# Altium schematic symbol library Yageo.SchLib: 231 symbols (part 3 of 3)
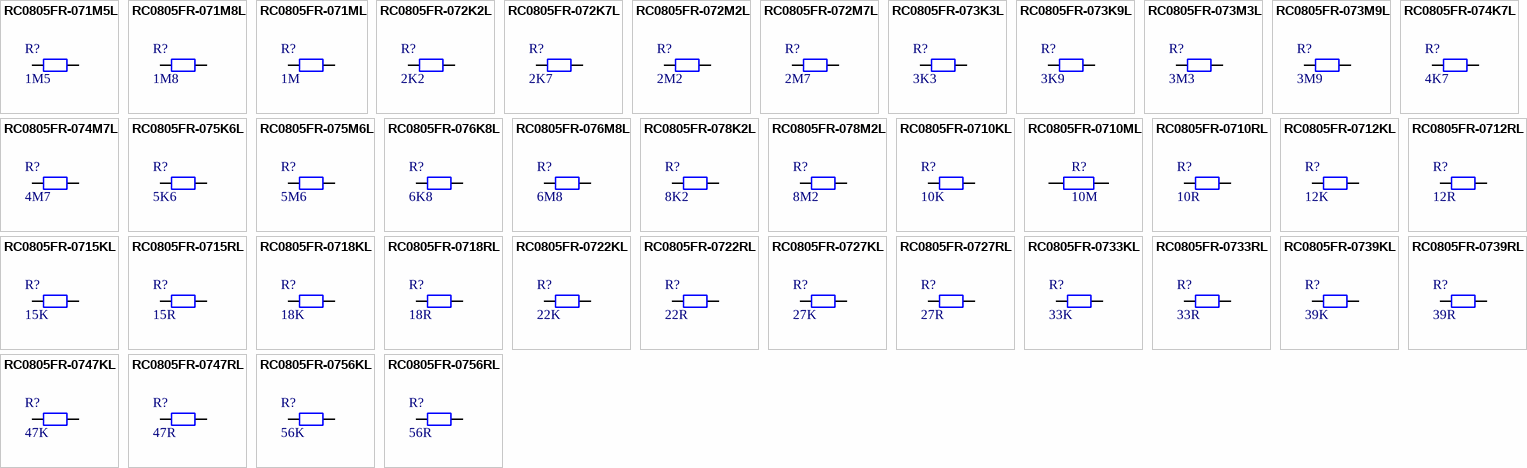
[diagram p7: symbols RC0805FR-071M5L to RC0805FR-0756RL]

## RC0805FR-0710RL
designator R?, comment 10R
RES 10R SM0805 YAGEO RC_L; Manufacturer Part Number: RC0805FR-0710RL; Power (Watts): 0.125; Resistance (Ohms): 10; Tolerance (%): 1; Category: Resistor; Manufacturer: Yageo; Package: 0805; Value: 10R; Supplier Part Number 1: 9237240; Supplier 1: Farnell; ComponentLink1Description: Manufacturer Website; ComponentLink1URL: http://www.yageo.com; Supplier 2: Digi-Key; Supplier Part Number 2: 311-10.0CRCT-ND; Datasheet: https://www.yageo.com/upload/media/product/app/datasheet/rchip/pyu-rc_group_51_rohs_l.pdf
footprint RES_SM0805_YAGEORC_N (Resistor, Yageo RC_L, SM0805, IPC Medium Density)
pins: 1, 2

## RC0805FR-0712KL
designator R?, comment 12K
RES 12K SM0805 YAGEO RC_L; Manufacturer Part Number: RC0805FR-0712KL; Power (Watts): 0.125; Resistance (Ohms): 12000; Tolerance (%): 1; Category: Resistor; Manufacturer: Yageo; Package: 0805; Value: 12K; Supplier Part Number 1: 9237763; Supplier 1: Farnell; ComponentLink1Description: Manufacturer Website; ComponentLink1URL: http://www.yageo.com; Supplier 2: Digi-Key; Supplier Part Number 2: 311-12.0KCRCT-ND
footprint RES_SM0805_YAGEORC_N (Resistor, Yageo RC_L, SM0805, IPC Medium Density)
pins: 1, 2

## RC0805FR-0712RL
designator R?, comment 12R
RES 12R SM0805 YAGEO RC_L; Manufacturer Part Number: RC0805FR-0712RL; Power (Watts): 0.125; Resistance (Ohms): 12; Tolerance (%): 1; Category: Resistor; Manufacturer: Yageo; Package: 0805; Value: 12R; Supplier Part Number 1: 9237259; Supplier 1: Farnell; ComponentLink1Description: Manufacturer Website; ComponentLink1URL: http://www.yageo.com; Supplier 2: Digi-Key; Supplier Part Number 2: 311-12.0CRCT-ND
footprint RES_SM0805_YAGEORC_N (Resistor, Yageo RC_L, SM0805, IPC Medium Density)
pins: 1, 2

## RC0805FR-0715KL
designator R?, comment 15K
RES 15K SM0805 YAGEO RC_L; Manufacturer Part Number: RC0805FR-0715KL; Power (Watts): 0.125; Resistance (Ohms): 15000; Tolerance (%): 1; Category: Resistor; Manufacturer: Yageo; Package: 0805; Value: 15K; Supplier Part Number 1: 9237771; Supplier 1: Farnell; ComponentLink1Description: Manufacturer Website; ComponentLink1URL: http://www.yageo.com; Supplier 2: Digi-Key; Supplier Part Number 2: 311-15.0KCRCT-ND
footprint RES_SM0805_YAGEORC_N (Resistor, Yageo RC_L, SM0805, IPC Medium Density)
pins: 1, 2

## RC0805FR-0715RL
designator R?, comment 15R
RES 15R SM0805 YAGEO RC_L; Manufacturer Part Number: RC0805FR-0715RL; Power (Watts): 0.125; Resistance (Ohms): 15; Tolerance (%): 1; Category: Resistor; Manufacturer: Yageo; Package: 0805; Value: 15R; Supplier Part Number 1: 9237267; Supplier 1: Farnell; ComponentLink1Description: Manufacturer Website; ComponentLink1URL: http://www.yageo.com; Supplier 2: Digi-Key; Supplier Part Number 2: 311-15.0CRCT-ND
footprint RES_SM0805_YAGEORC_N (Resistor, Yageo RC_L, SM0805, IPC Medium Density)
pins: 1, 2

## RC0805FR-0718KL
designator R?, comment 18K
RES 18K SM0805 YAGEO RC_L; Manufacturer Part Number: RC0805FR-0718KL; Power (Watts): 0.125; Resistance (Ohms): 18000; Tolerance (%): 1; Category: Resistor; Manufacturer: Yageo; Package: 0805; Value: 18K; Supplier Part Number 1: 9237780; Supplier 1: Farnell; ComponentLink1Description: Manufacturer Website; ComponentLink1URL: http://www.yageo.com; Supplier 2: Digi-Key; Supplier Part Number 2: 311-18.0KCRCT-ND
footprint RES_SM0805_YAGEORC_N (Resistor, Yageo RC_L, SM0805, IPC Medium Density)
pins: 1, 2

## RC0805FR-0718RL
designator R?, comment 18R
RES 18R SM0805 YAGEO RC_L; Manufacturer Part Number: RC0805FR-0718RL; Power (Watts): 0.125; Resistance (Ohms): 18; Tolerance (%): 1; Category: Resistor; Manufacturer: Yageo; Package: 0805; Value: 18R; Supplier Part Number 1: 9237275; Supplier 1: Farnell; ComponentLink1Description: Manufacturer Website; ComponentLink1URL: http://www.yageo.com; Supplier 2: Digi-Key; Supplier Part Number 2: 311-18.0CRCT-ND
footprint RES_SM0805_YAGEORC_N (Resistor, Yageo RC_L, SM0805, IPC Medium Density)
pins: 1, 2

## RC0805FR-0722KL
designator R?, comment 22K
RES 22K SM0805 YAGEO RC_L; Manufacturer Part Number: RC0805FR-0722KL; Power (Watts): 0.125; Resistance (Ohms): 22000; Tolerance (%): 1; Category: Resistor; Manufacturer: Yageo; Package: 0805; Value: 22K; Supplier Part Number 1: 9237798; Supplier 1: Farnell; ComponentLink1Description: Manufacturer Website; ComponentLink1URL: http://www.yageo.com; Supplier 2: Digi-Key; Supplier Part Number 2: 311-22.0KCRCT-ND
footprint RES_SM0805_YAGEORC_N (Resistor, Yageo RC_L, SM0805, IPC Medium Density)
pins: 1, 2

## RC0805FR-0722RL
designator R?, comment 22R
RES 22R SM0805 YAGEO RC_L; Manufacturer Part Number: RC0805FR-0722RL; Power (Watts): 0.125; Resistance (Ohms): 22; Tolerance (%): 1; Category: Resistor; Manufacturer: Yageo; Package: 0805; Value: 22R; Supplier Part Number 1: 9237283; Supplier 1: Farnell; ComponentLink1Description: Manufacturer Website; ComponentLink1URL: http://www.yageo.com; Supplier 2: Digi-Key; Supplier Part Number 2: 311-22.0CRCT-ND
footprint RES_SM0805_YAGEORC_N (Resistor, Yageo RC_L, SM0805, IPC Medium Density)
pins: 1, 2

## RC0805FR-0727KL
designator R?, comment 27K
RES 27K SM0805 YAGEO RC_L; Manufacturer Part Number: RC0805FR-0727KL; Power (Watts): 0.125; Resistance (Ohms): 27000; Tolerance (%): 1; Category: Resistor; Manufacturer: Yageo; Package: 0805; Value: 27K; Supplier Part Number 1: 9237801; Supplier 1: Farnell; ComponentLink1Description: Manufacturer Website; ComponentLink1URL: http://www.yageo.com; Supplier 2: Digi-Key; Supplier Part Number 2: 311-27.0KCRCT-ND
footprint RES_SM0805_YAGEORC_N (Resistor, Yageo RC_L, SM0805, IPC Medium Density)
pins: 1, 2

## RC0805FR-0727RL
designator R?, comment 27R
RES 27R SM0805 YAGEO RC_L; Manufacturer Part Number: RC0805FR-0727RL; Power (Watts): 0.125; Resistance (Ohms): 27; Tolerance (%): 1; Category: Resistor; Manufacturer: Yageo; Package: 0805; Value: 27R; Supplier Part Number 1: 9237291; Supplier 1: Farnell; ComponentLink1Description: Manufacturer Website; ComponentLink1URL: http://www.yageo.com; Supplier 2: Digi-Key; Supplier Part Number 2: 311-27.0CRCT-ND
footprint RES_SM0805_YAGEORC_N (Resistor, Yageo RC_L, SM0805, IPC Medium Density)
pins: 1, 2

## RC0805FR-0733KL
designator R?, comment 33K
RES 33K SM0805 YAGEO RC_L; Manufacturer Part Number: RC0805FR-0733KL; Power (Watts): 0.125; Resistance (Ohms): 33000; Tolerance (%): 1; Category: Resistor; Manufacturer: Yageo; Package: 0805; Value: 33K; Supplier Part Number 1: 9237810; Supplier 1: Farnell; ComponentLink1Description: Manufacturer Website; ComponentLink1URL: http://www.yageo.com; Supplier 2: Digi-Key; Supplier Part Number 2: 311-33.0KCRCT-ND
footprint RES_SM0805_YAGEORC_N (Resistor, Yageo RC_L, SM0805, IPC Medium Density)
pins: 1, 2

## RC0805FR-0733RL
designator R?, comment 33R
RES 33R SM0805 YAGEO RC_L; Manufacturer Part Number: RC0805FR-0733RL; Power (Watts): 0.125; Resistance (Ohms): 33; Tolerance (%): 1; Category: Resistor; Manufacturer: Yageo; Package: 0805; Value: 33R; Supplier Part Number 1: 9237305; Supplier 1: Farnell; ComponentLink1Description: Manufacturer Website; ComponentLink1URL: http://www.yageo.com; Supplier 2: Digi-Key; Supplier Part Number 2: 311-33.0CRCT-ND
footprint RES_SM0805_YAGEORC_N (Resistor, Yageo RC_L, SM0805, IPC Medium Density)
pins: 1, 2

## RC0805FR-0739KL
designator R?, comment 39K
RES 39K SM0805 YAGEO RC_L; Manufacturer Part Number: RC0805FR-0739KL; Power (Watts): 0.125; Resistance (Ohms): 39000; Tolerance (%): 1; Category: Resistor; Manufacturer: Yageo; Package: 0805; Value: 39K; Supplier Part Number 1: 9237828; Supplier 1: Farnell; ComponentLink1Description: Manufacturer Website; ComponentLink1URL: http://www.yageo.com; Supplier 2: Digi-Key; Supplier Part Number 2: 311-39.0KCRCT-ND
footprint RES_SM0805_YAGEORC_N (Resistor, Yageo RC_L, SM0805, IPC Medium Density)
pins: 1, 2

## RC0805FR-0739RL
designator R?, comment 39R
RES 39R SM0805 YAGEO RC_L; Manufacturer Part Number: RC0805FR-0739RL; Power (Watts): 0.125; Resistance (Ohms): 39; Tolerance (%): 1; Category: Resistor; Manufacturer: Yageo; Package: 0805; Value: 39R; Supplier Part Number 1: 9237313; Supplier 1: Farnell; ComponentLink1Description: Manufacturer Website; ComponentLink1URL: http://www.yageo.com; Supplier 2: Digi-Key; Supplier Part Number 2: 311-39.0CRCT-ND
footprint RES_SM0805_YAGEORC_N (Resistor, Yageo RC_L, SM0805, IPC Medium Density)
pins: 1, 2

## RC0805FR-0747KL
designator R?, comment 47K
RES 47K SM0805 YAGEO RC_L; Manufacturer Part Number: RC0805FR-0747KL; Power (Watts): 0.125; Resistance (Ohms): 47000; Tolerance (%): 1; Category: Resistor; Manufacturer: Yageo; Package: 0805; Value: 47K; Supplier Part Number 1: 9237836; Supplier 1: Farnell; ComponentLink1Description: Manufacturer Website; ComponentLink1URL: http://www.yageo.com; Supplier 2: Digi-Key; Supplier Part Number 2: 311-47.0KCRCT-ND
footprint RES_SM0805_YAGEORC_N (Resistor, Yageo RC_L, SM0805, IPC Medium Density)
pins: 1, 2

## RC0805FR-0747RL
designator R?, comment 47R
RES 47R SM0805 YAGEO RC_L; Manufacturer Part Number: RC0805FR-0747RL; Power (Watts): 0.125; Resistance (Ohms): 47; Tolerance (%): 1; Category: Resistor; Manufacturer: Yageo; Package: 0805; Value: 47R; Supplier Part Number 1: 9237321; Supplier 1: Farnell; ComponentLink1Description: Manufacturer Website; ComponentLink1URL: http://www.yageo.com; Supplier 2: Digi-Key; Supplier Part Number 2: 311-47.0CRCT-ND; Datasheet: https://www.yageo.com/upload/media/product/app/datasheet/rchip/pyu-rc_group_51_rohs_l.pdf
footprint RES_SM0805_YAGEORC_N (Resistor, Yageo RC_L, SM0805, IPC Medium Density)
pins: 1, 2

## RC0805FR-0756KL
designator R?, comment 56K
RES 56K SM0805 YAGEO RC_L; Manufacturer Part Number: RC0805FR-0756KL; Power (Watts): 0.125; Resistance (Ohms): 56000; Tolerance (%): 1; Category: Resistor; Manufacturer: Yageo; Package: 0805; Value: 56K; Supplier Part Number 1: 9237844; Supplier 1: Farnell; ComponentLink1Description: Manufacturer Website; ComponentLink1URL: http://www.yageo.com; Supplier 2: Digi-Key; Supplier Part Number 2: 311-56.0KCRCT-ND
footprint RES_SM0805_YAGEORC_N (Resistor, Yageo RC_L, SM0805, IPC Medium Density)
pins: 1, 2

## RC0805FR-0756RL
designator R?, comment 56R
RES 56R SM0805 YAGEO RC_L; Manufacturer Part Number: RC0805FR-0756RL; Power (Watts): 0.125; Resistance (Ohms): 56; Tolerance (%): 1; Category: Resistor; Manufacturer: Yageo; Package: 0805; Value: 56R; Supplier Part Number 1: 9237330; Supplier 1: Farnell; ComponentLink1Description: Manufacturer Website; ComponentLink1URL: http://www.yageo.com; Supplier 2: Digi-Key; Supplier Part Number 2: 311-56.0CRCT-ND
footprint RES_SM0805_YAGEORC_N (Resistor, Yageo RC_L, SM0805, IPC Medium Density)
pins: 1, 2

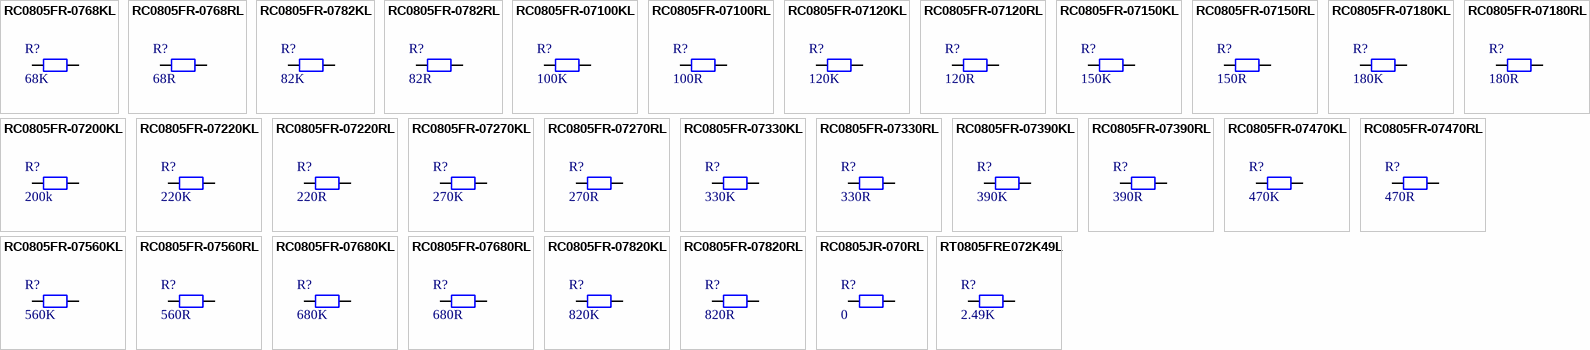
[diagram p5: symbols RC0805FR-0768KL to RT0805FRE072K49L]

## RC0805FR-0768KL
designator R?, comment 68K
RES 68K SM0805 YAGEO RC_L; Manufacturer Part Number: RC0805FR-0768KL; Power (Watts): 0.125; Resistance (Ohms): 68000; Tolerance (%): 1; Category: Resistor; Manufacturer: Yageo; Package: 0805; Value: 68K; Supplier Part Number 1: 9237852; Supplier 1: Farnell; ComponentLink1Description: Manufacturer Website; ComponentLink1URL: http://www.yageo.com; Supplier 2: Digi-Key; Supplier Part Number 2: 311-68.0KCRCT-ND
footprint RES_SM0805_YAGEORC_N (Resistor, Yageo RC_L, SM0805, IPC Medium Density)
pins: 1, 2

## RC0805FR-0768RL
designator R?, comment 68R
RES 68R SM0805 YAGEO RC_L; Manufacturer Part Number: RC0805FR-0768RL; Power (Watts): 0.125; Resistance (Ohms): 68; Tolerance (%): 1; Category: Resistor; Manufacturer: Yageo; Package: 0805; Value: 68R; Supplier Part Number 1: 9237348; Supplier 1: Farnell; ComponentLink1Description: Manufacturer Website; ComponentLink1URL: http://www.yageo.com; Supplier 2: Digi-Key; Supplier Part Number 2: 311-68.0CRCT-ND
footprint RES_SM0805_YAGEORC_N (Resistor, Yageo RC_L, SM0805, IPC Medium Density)
pins: 1, 2

## RC0805FR-0782KL
designator R?, comment 82K
RES 82K SM0805 YAGEO RC_L; Manufacturer Part Number: RC0805FR-0782KL; Power (Watts): 0.125; Resistance (Ohms): 82000; Tolerance (%): 1; Category: Resistor; Manufacturer: Yageo; Package: 0805; Value: 82K; Supplier Part Number 1: 9237860; Supplier 1: Farnell; ComponentLink1Description: Manufacturer Website; ComponentLink1URL: http://www.yageo.com; Supplier 2: Digi-Key; Supplier Part Number 2: 311-82.0KCRCT-ND; Datasheet: https://www.yageo.com/upload/media/product/app/datasheet/rchip/pyu-rc_group_51_rohs_l.pdf
footprint RES_SM0805_YAGEORC_N (Resistor, Yageo RC_L, SM0805, IPC Medium Density)
pins: 1, 2

## RC0805FR-0782RL
designator R?, comment 82R
RES 82R SM0805 YAGEO RC_L; Manufacturer Part Number: RC0805FR-0782RL; Power (Watts): 0.125; Resistance (Ohms): 82; Tolerance (%): 1; Category: Resistor; Manufacturer: Yageo; Package: 0805; Value: 82R; Supplier Part Number 1: 9237356; Supplier 1: Farnell; ComponentLink1Description: Manufacturer Website; ComponentLink1URL: http://www.yageo.com; Supplier 2: Digi-Key; Supplier Part Number 2: 311-82.0CRCT-ND
footprint RES_SM0805_YAGEORC_N (Resistor, Yageo RC_L, SM0805, IPC Medium Density)
pins: 1, 2

## RC0805FR-07100KL
designator R?, comment 100K
RES 100K SM0805 YAGEO RC_L; Manufacturer Part Number: RC0805FR-07100KL; Power (Watts): 0.125; Resistance (Ohms): 100000; Tolerance (%): 1; Category: Resistor; Manufacturer: Yageo; Package: 0805; Value: 100K; Supplier Part Number 1: 9237879; Supplier 1: Farnell; ComponentLink1Description: Manufacturer Website; ComponentLink1URL: http://www.yageo.com; Supplier 2: Digi-Key; Supplier Part Number 2: 311-100KCRCT-ND; Datasheet: https://www.yageo.com/upload/media/product/app/datasheet/rchip/pyu-rc_group_51_rohs_l.pdf
footprint RES_SM0805_YAGEORC_N (Resistor, Yageo RC_L, SM0805, IPC Medium Density)
pins: 1, 2

## RC0805FR-07100RL
designator R?, comment 100R
RES 100R SM0805 YAGEO RC_L; Manufacturer Part Number: RC0805FR-07100RL; Power (Watts): 0.125; Resistance (Ohms): 100; Tolerance (%): 1; Category: Resistor; Manufacturer: Yageo; Package: 0805; Value: 100R; Supplier Part Number 1: 9237364; Supplier 1: Farnell; ComponentLink1Description: Manufacturer Website; ComponentLink1URL: http://www.yageo.com; Supplier 2: Digi-Key; Supplier Part Number 2: 311-100CRCT-ND; Datasheet: https://www.yageo.com/upload/media/product/productsearch/datasheet/rchip/PYu-RC_Group_51_RoHS_L_12.pdf
footprint RES_SM0805_YAGEORC_N (Resistor, Yageo RC_L, SM0805, IPC Medium Density)
pins: 1, 2

## RC0805FR-07120KL
designator R?, comment 120K
RES 120K SM0805 YAGEO RC_L; Manufacturer Part Number: RC0805FR-07120KL; Power (Watts): 0.125; Resistance (Ohms): 120000; Tolerance (%): 1; Category: Resistor; Manufacturer: Yageo; Package: 0805; Value: 120K; Supplier Part Number 1: 9237887; Supplier 1: Farnell; ComponentLink1Description: Manufacturer Website; ComponentLink1URL: http://www.yageo.com; Supplier 2: Digi-Key; Supplier Part Number 2: 311-120KCRCT-ND
footprint RES_SM0805_YAGEORC_N (Resistor, Yageo RC_L, SM0805, IPC Medium Density)
pins: 1, 2

## RC0805FR-07120RL
designator R?, comment 120R
RES 120R SM0805 YAGEO RC_L; Manufacturer Part Number: RC0805FR-07120RL; Power (Watts): 0.125; Resistance (Ohms): 120; Tolerance (%): 1; Category: Resistor; Manufacturer: Yageo; Package: 0805; Value: 120R; Supplier Part Number 1: 9237372; Supplier 1: Farnell; ComponentLink1Description: Manufacturer Website; ComponentLink1URL: http://www.yageo.com; Supplier 2: Digi-Key; Supplier Part Number 2: 311-120CRCT-ND
footprint RES_SM0805_YAGEORC_N (Resistor, Yageo RC_L, SM0805, IPC Medium Density)
pins: 1, 2

## RC0805FR-07150KL
designator R?, comment 150K
RES 150K SM0805 YAGEO RC_L; Manufacturer Part Number: RC0805FR-07150KL; Power (Watts): 0.125; Resistance (Ohms): 150000; Tolerance (%): 1; Category: Resistor; Manufacturer: Yageo; Package: 0805; Value: 150K; Supplier Part Number 1: 9237895; Supplier 1: Farnell; ComponentLink1Description: Manufacturer Website; ComponentLink1URL: http://www.yageo.com; Supplier 2: Digi-Key; Supplier Part Number 2: 311-150KCRCT-ND
footprint RES_SM0805_YAGEORC_N (Resistor, Yageo RC_L, SM0805, IPC Medium Density)
pins: 1, 2

## RC0805FR-07150RL
designator R?, comment 150R
RES 150R SM0805 YAGEO RC_L; Manufacturer Part Number: RC0805FR-07150RL; Power (Watts): 0.125; Resistance (Ohms): 150; Tolerance (%): 1; Category: Resistor; Manufacturer: Yageo; Package: 0805; Value: 150R; Supplier Part Number 1: 9237380; Supplier 1: Farnell; ComponentLink1Description: Manufacturer Website; ComponentLink1URL: http://www.yageo.com; Supplier 2: Digi-Key; Supplier Part Number 2: 311-150CRCT-ND
footprint RES_SM0805_YAGEORC_N (Resistor, Yageo RC_L, SM0805, IPC Medium Density)
pins: 1, 2

## RC0805FR-07180KL
designator R?, comment 180K
RES 180K SM0805 YAGEO RC_L; Manufacturer Part Number: RC0805FR-07180KL; Power (Watts): 0.125; Resistance (Ohms): 180000; Tolerance (%): 1; Category: Resistor; Manufacturer: Yageo; Package: 0805; Value: 180K; Supplier Part Number 1: 9237909; Supplier 1: Farnell; ComponentLink1Description: Manufacturer Website; ComponentLink1URL: http://www.yageo.com; Supplier 2: Digi-Key; Supplier Part Number 2: 311-180KCRCT-ND
footprint RES_SM0805_YAGEORC_N (Resistor, Yageo RC_L, SM0805, IPC Medium Density)
pins: 1, 2

## RC0805FR-07180RL
designator R?, comment 180R
RES 180R SM0805 YAGEO RC_L; Manufacturer Part Number: RC0805FR-07180RL; Power (Watts): 0.125; Resistance (Ohms): 180; Tolerance (%): 1; Category: Resistor; Manufacturer: Yageo; Package: 0805; Value: 180R; Supplier Part Number 1: 9237399; Supplier 1: Farnell; ComponentLink1Description: Manufacturer Website; ComponentLink1URL: http://www.yageo.com; Supplier 2: Digi-Key; Supplier Part Number 2: 311-180CRCT-ND
footprint RES_SM0805_YAGEORC_N (Resistor, Yageo RC_L, SM0805, IPC Medium Density)
pins: 1, 2

## RC0805FR-07200KL
designator R?, comment 200k
RES 200K SM0805 YAGEO RC_L; Manufacturer Part Number: RC0805FR-07200KL; Power (Watts): 0.1; Resistance (Ohms): 200000; Tolerance (%): 1; Category: Resistor; Manufacturer: Yageo; Package: 0805; Value: 200k; ComponentLink1URL: http://www.yageo.com; ComponentLink1Description: Manufacturer Website; Datasheet: https://www.yageo.com/upload/media/product/app/datasheet/rchip/pyu-rc_group_51_rohs_l.pdf
footprint RES_SM0805_YAGEORC_N (Resistor, Yageo RC_L, SM0805, IPC Medium Density)
pins: 1, 2

## RC0805FR-07220KL
designator R?, comment 220K
RES 220K SM0805 YAGEO RC_L; Manufacturer Part Number: RC0805FR-07220KL; Power (Watts): 0.125; Resistance (Ohms): 220000; Tolerance (%): 1; Category: Resistor; Manufacturer: Yageo; Package: 0805; Value: 220K; Supplier Part Number 1: 9237917; Supplier 1: Farnell; ComponentLink1Description: Manufacturer Website; ComponentLink1URL: http://www.yageo.com; Supplier 2: Digi-Key; Supplier Part Number 2: 311-220KCRCT-ND; Datasheet: https://www.yageo.com/upload/media/product/productsearch/datasheet/rchip/PYu-RC_Group_51_RoHS_L_12.pdf
footprint RES_SM0805_YAGEORC_N (Resistor, Yageo RC_L, SM0805, IPC Medium Density)
pins: 1, 2

## RC0805FR-07220RL
designator R?, comment 220R
RES 220R SM0805 YAGEO RC_L; Manufacturer Part Number: RC0805FR-07220RL; Power (Watts): 0.125; Resistance (Ohms): 220; Tolerance (%): 1; Category: Resistor; Manufacturer: Yageo; Package: 0805; Value: 220R; Supplier Part Number 1: 9237402; Supplier 1: Farnell; ComponentLink1Description: Manufacturer Website; ComponentLink1URL: http://www.yageo.com; Supplier 2: Digi-Key; Supplier Part Number 2: 311-220CRCT-ND
footprint RES_SM0805_YAGEORC_N (Resistor, Yageo RC_L, SM0805, IPC Medium Density)
pins: 1, 2

## RC0805FR-07270KL
designator R?, comment 270K
RES 270K SM0805 YAGEO RC_L; Manufacturer Part Number: RC0805FR-07270KL; Power (Watts): 0.125; Resistance (Ohms): 270000; Tolerance (%): 1; Category: Resistor; Manufacturer: Yageo; Package: 0805; Value: 270K; Supplier Part Number 1: 9237925; Supplier 1: Farnell; ComponentLink1Description: Manufacturer Website; ComponentLink1URL: http://www.yageo.com; Supplier 2: Digi-Key; Supplier Part Number 2: 311-270KCRCT-ND
footprint RES_SM0805_YAGEORC_N (Resistor, Yageo RC_L, SM0805, IPC Medium Density)
pins: 1, 2

## RC0805FR-07270RL
designator R?, comment 270R
RES 270R SM0805 YAGEO RC_L; Manufacturer Part Number: RC0805FR-07270RL; Power (Watts): 0.125; Resistance (Ohms): 270; Tolerance (%): 1; Category: Resistor; Manufacturer: Yageo; Package: 0805; Value: 270R; Supplier Part Number 1: 9237410; Supplier 1: Farnell; ComponentLink1Description: Manufacturer Website; ComponentLink1URL: http://www.yageo.com; Supplier 2: Digi-Key; Supplier Part Number 2: 311-270CRCT-ND
footprint RES_SM0805_YAGEORC_N (Resistor, Yageo RC_L, SM0805, IPC Medium Density)
pins: 1, 2

## RC0805FR-07330KL
designator R?, comment 330K
RES 330K SM0805 YAGEO RC_L; Manufacturer Part Number: RC0805FR-07330KL; Power (Watts): 0.125; Resistance (Ohms): 330000; Tolerance (%): 1; Category: Resistor; Manufacturer: Yageo; Package: 0805; Value: 330K; Supplier Part Number 1: 9237933; Supplier 1: Farnell; ComponentLink1Description: Manufacturer Website; ComponentLink1URL: http://www.yageo.com; Supplier 2: Digi-Key; Supplier Part Number 2: 311-330KCRCT-ND
footprint RES_SM0805_YAGEORC_N (Resistor, Yageo RC_L, SM0805, IPC Medium Density)
pins: 1, 2

## RC0805FR-07330RL
designator R?, comment 330R
RES 330R SM0805 YAGEO RC_L; Manufacturer Part Number: RC0805FR-07330RL; Power (Watts): 0.125; Resistance (Ohms): 330; Tolerance (%): 1; Category: Resistor; Manufacturer: Yageo; Package: 0805; Value: 330R; Supplier Part Number 1: 9237429; Supplier 1: Farnell; ComponentLink1Description: Manufacturer Website; ComponentLink1URL: http://www.yageo.com; Supplier 2: Digi-Key; Supplier Part Number 2: 311-330CRCT-ND
footprint RES_SM0805_YAGEORC_N (Resistor, Yageo RC_L, SM0805, IPC Medium Density)
pins: 1, 2

## RC0805FR-07390KL
designator R?, comment 390K
RES 390K SM0805 YAGEO RC_L; Manufacturer Part Number: RC0805FR-07390KL; Power (Watts): 0.125; Resistance (Ohms): 390000; Tolerance (%): 1; Category: Resistor; Manufacturer: Yageo; Package: 0805; Value: 390K; Supplier Part Number 1: 9237941; Supplier 1: Farnell; ComponentLink1Description: Manufacturer Website; ComponentLink1URL: http://www.yageo.com; Supplier 2: Digi-Key; Supplier Part Number 2: 311-390KCRCT-ND
footprint RES_SM0805_YAGEORC_N (Resistor, Yageo RC_L, SM0805, IPC Medium Density)
pins: 1, 2

## RC0805FR-07390RL
designator R?, comment 390R
RES 390R SM0805 YAGEO RC_L; Manufacturer Part Number: RC0805FR-07390RL; Power (Watts): 0.125; Resistance (Ohms): 390; Tolerance (%): 1; Category: Resistor; Manufacturer: Yageo; Package: 0805; Value: 390R; Supplier Part Number 1: 9237437; Supplier 1: Farnell; ComponentLink1Description: Manufacturer Website; ComponentLink1URL: http://www.yageo.com; Supplier 2: Digi-Key; Supplier Part Number 2: 311-390CRCT-ND
footprint RES_SM0805_YAGEORC_N (Resistor, Yageo RC_L, SM0805, IPC Medium Density)
pins: 1, 2

## RC0805FR-07470KL
designator R?, comment 470K
RES 470K SM0805 YAGEO RC_L; Manufacturer Part Number: RC0805FR-07470KL; Power (Watts): 0.125; Resistance (Ohms): 470000; Tolerance (%): 1; Category: Resistor; Manufacturer: Yageo; Package: 0805; Value: 470K; Supplier Part Number 1: 9237950; Supplier 1: Farnell; ComponentLink1Description: Manufacturer Website; ComponentLink1URL: http://www.yageo.com; Supplier 2: Digi-Key; Supplier Part Number 2: 311-470KCRCT-ND
footprint RES_SM0805_YAGEORC_N (Resistor, Yageo RC_L, SM0805, IPC Medium Density)
pins: 1, 2

## RC0805FR-07470RL
designator R?, comment 470R
RES 470R SM0805 YAGEO RC_L; Manufacturer Part Number: RC0805FR-07470RL; Power (Watts): 0.125; Resistance (Ohms): 470; Tolerance (%): 1; Category: Resistor; Manufacturer: Yageo; Package: 0805; Value: 470R; Supplier Part Number 1: 9237445; Supplier 1: Farnell; ComponentLink1Description: Manufacturer Website; ComponentLink1URL: http://www.yageo.com; Supplier 2: Digi-Key; Supplier Part Number 2: 311-470CRCT-ND
footprint RES_SM0805_YAGEORC_N (Resistor, Yageo RC_L, SM0805, IPC Medium Density)
pins: 1, 2

## RC0805FR-07560KL
designator R?, comment 560K
RES 560K SM0805 YAGEO RC_L; Manufacturer Part Number: RC0805FR-07560KL; Power (Watts): 0.125; Resistance (Ohms): 560000; Tolerance (%): 1; Category: Resistor; Manufacturer: Yageo; Package: 0805; Value: 560K; Supplier Part Number 1: 9237968; Supplier 1: Farnell; ComponentLink1Description: Manufacturer Website; ComponentLink1URL: http://www.yageo.com; Supplier 2: Digi-Key; Supplier Part Number 2: 311-560KCRCT-ND
footprint RES_SM0805_YAGEORC_N (Resistor, Yageo RC_L, SM0805, IPC Medium Density)
pins: 1, 2

## RC0805FR-07560RL
designator R?, comment 560R
RES 560R SM0805 YAGEO RC_L; Manufacturer Part Number: RC0805FR-07560RL; Power (Watts): 0.125; Resistance (Ohms): 560; Tolerance (%): 1; Category: Resistor; Manufacturer: Yageo; Package: 0805; Value: 560R; Supplier Part Number 1: 9237461; Supplier 1: Farnell; ComponentLink1Description: Manufacturer Website; ComponentLink1URL: http://www.yageo.com; Supplier 2: Digi-Key; Supplier Part Number 2: 311-560CRCT-ND
footprint RES_SM0805_YAGEORC_N (Resistor, Yageo RC_L, SM0805, IPC Medium Density)
pins: 1, 2

## RC0805FR-07680KL
designator R?, comment 680K
RES 680K SM0805 YAGEO RC_L; Manufacturer Part Number: RC0805FR-07680KL; Power (Watts): 0.125; Resistance (Ohms): 680000; Tolerance (%): 1; Category: Resistor; Manufacturer: Yageo; Package: 0805; Value: 680K; Supplier Part Number 1: 9237976; Supplier 1: Farnell; ComponentLink1Description: Manufacturer Website; ComponentLink1URL: http://www.yageo.com; Supplier 2: Digi-Key; Supplier Part Number 2: 311-680KCRCT-ND
footprint RES_SM0805_YAGEORC_N (Resistor, Yageo RC_L, SM0805, IPC Medium Density)
pins: 1, 2

## RC0805FR-07680RL
designator R?, comment 680R
RES 680R SM0805 YAGEO RC_L; Manufacturer Part Number: RC0805FR-07680RL; Power (Watts): 0.125; Resistance (Ohms): 680; Tolerance (%): 1; Category: Resistor; Manufacturer: Yageo; Package: 0805; Value: 680R; Supplier Part Number 1: 9237470; Supplier 1: Farnell; ComponentLink1Description: Manufacturer Website; ComponentLink1URL: http://www.yageo.com; Supplier 2: Digi-Key; Supplier Part Number 2: 311-680CRCT-ND
footprint RES_SM0805_YAGEORC_N (Resistor, Yageo RC_L, SM0805, IPC Medium Density)
pins: 1, 2

## RC0805FR-07820KL
designator R?, comment 820K
RES 820K SM0805 YAGEO RC_L; Manufacturer Part Number: RC0805FR-07820KL; Power (Watts): 0.125; Resistance (Ohms): 820000; Tolerance (%): 1; Category: Resistor; Manufacturer: Yageo; Package: 0805; Value: 820K; Supplier Part Number 1: 9237984; Supplier 1: Farnell; ComponentLink1Description: Manufacturer Website; ComponentLink1URL: http://www.yageo.com; Supplier 2: Digi-Key; Supplier Part Number 2: 311-820KCRCT-ND
footprint RES_SM0805_YAGEORC_N (Resistor, Yageo RC_L, SM0805, IPC Medium Density)
pins: 1, 2

## RC0805FR-07820RL
designator R?, comment 820R
RES 820R SM0805 YAGEO RC_L; Manufacturer Part Number: RC0805FR-07820RL; Power (Watts): 0.125; Resistance (Ohms): 820; Tolerance (%): 1; Category: Resistor; Manufacturer: Yageo; Package: 0805; Value: 820R; Supplier Part Number 1: 9237488; Supplier 1: Farnell; ComponentLink1Description: Manufacturer Website; ComponentLink1URL: http://www.yageo.com; Supplier 2: Digi-Key; Supplier Part Number 2: 311-820CRCT-ND
footprint RES_SM0805_YAGEORC_N (Resistor, Yageo RC_L, SM0805, IPC Medium Density)
pins: 1, 2

## RC0805JR-070RL
designator R?, comment 0
RES 0 OHMS SM0805 YAGEO RC_L; Manufacturer Part Number: RC0805JR-070RL; Power (Watts): 0.1; Tolerance (%): 1; Category: Resistor; Manufacturer: Yageo; Package: 0805; Resistance (Ohms): 0; Value: 0; ComponentLink1URL: http://www.yageo.com; ComponentLink1Description: Manufacturer Website; Supplier: LCSC; Datasheet: https://www.yageo.com/upload/media/product/productsearch/datasheet/rchip/PYu-RC_Group_51_RoHS_L_12.pdf
footprint RES_SM0805_YAGEORC_N (Resistor, Yageo RC_L, SM0805, IPC Medium Density)
pins: 1, 2

## RT0805FRE072K49L
designator R?, comment 2.49K
RES 2K49 SM0805 YAGEO RT_L; Manufacturer Part Number: RC0603FR-072K49L; Power (Watts): 0.1; Resistance (Ohms): 2490; Tolerance (%): 1; Category: Resistor; Manufacturer: Yageo; Package: 0805; Value: 2.49K; ComponentLink1URL: http://www.yageo.com; ComponentLink1Description: Manufacturer Website; Datasheet: https://www.yageo.com/upload/media/product/productsearch/datasheet/rchip/PYu-RT_1-to-0.01_RoHS_L_15.pdf
footprint RES_SM0805_YAGEORC_N (Resistor, Yageo RC_L, SM0805, IPC Medium Density)
pins: 1, 2